# Altium footprint library sensornode.PcbLib: 55 footprints (part 3 of 4)
Each footprint in its own frame and in the unit in brackets; x right, y up, seen from the top. Pads: shape width x height; smd on the part's side, far side on the other; paste and mask are expansions set on the pad; w line width, h text height; cw(c..) or ccw(c..) is an arc to the next point about the centre after c.
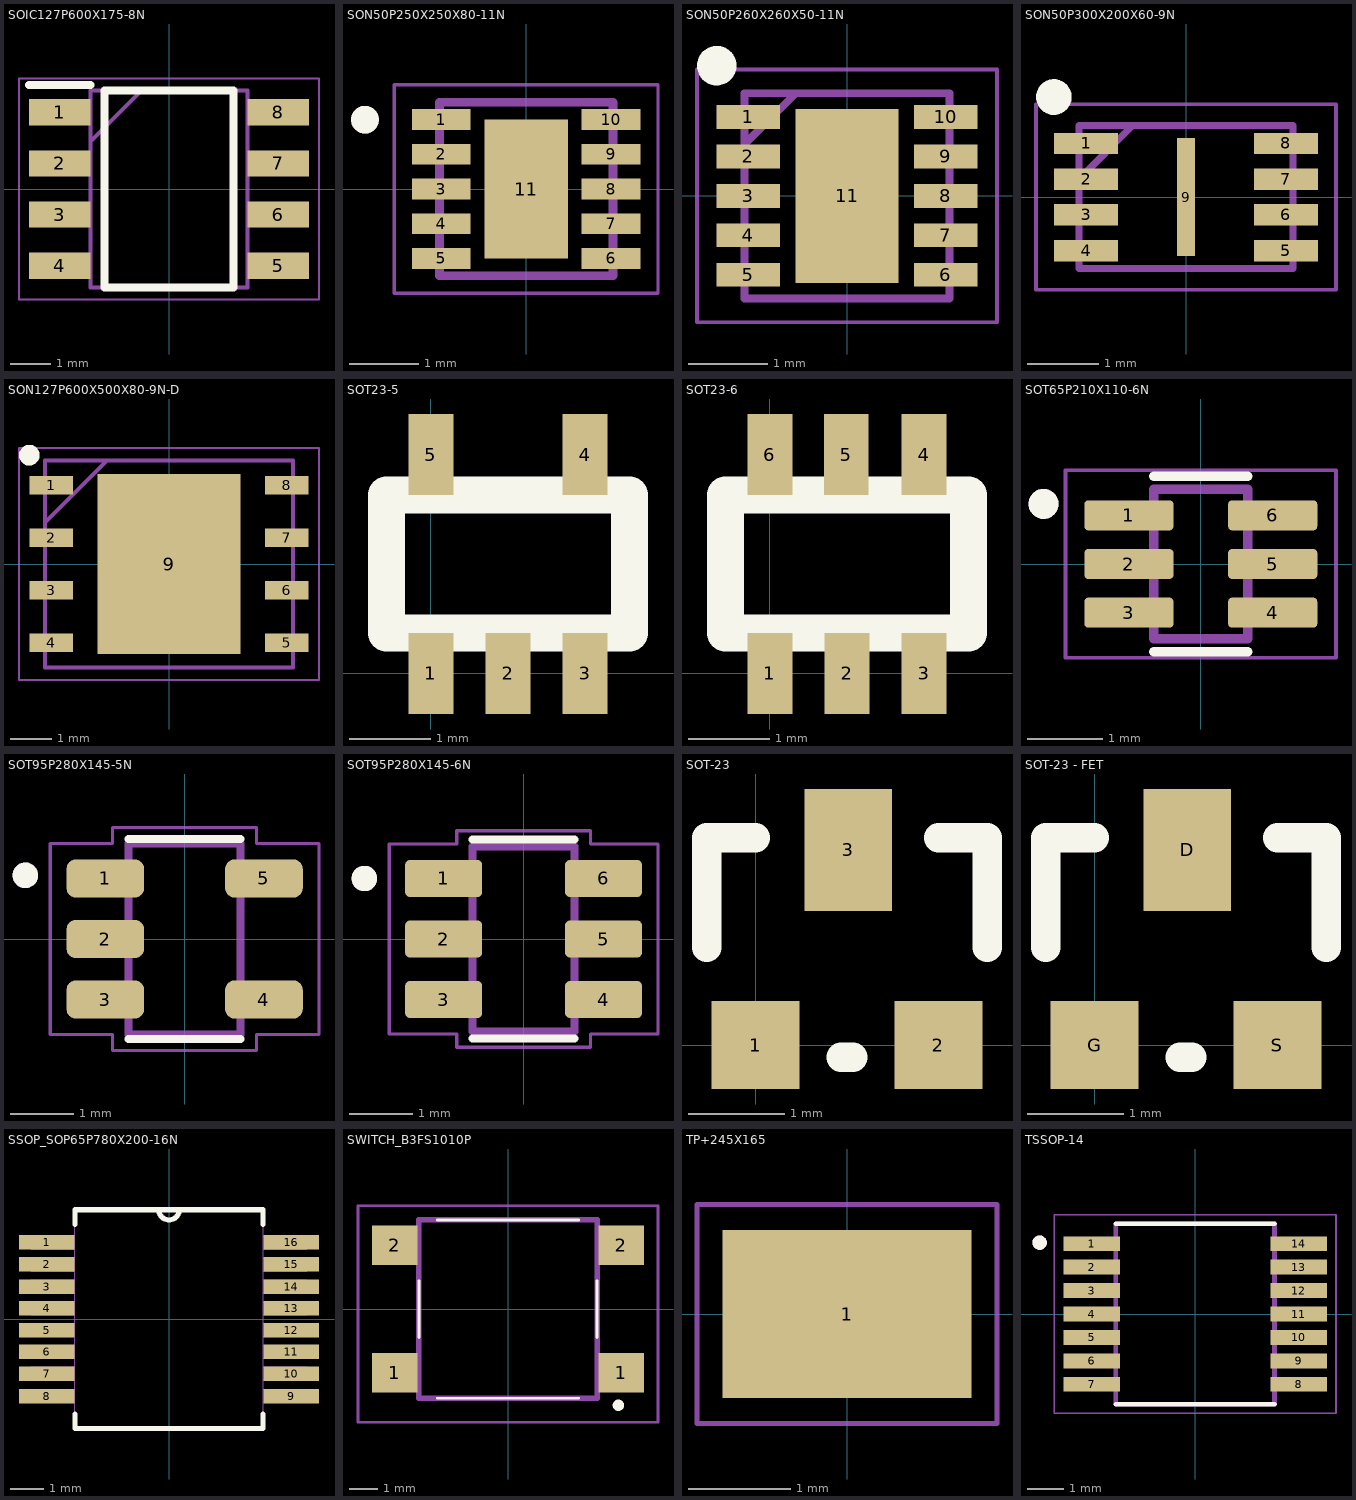
[diagram p2: the footprints below, top view; thin cyan lines are the x and y axes]

## SOIC127P600X175-8N [mm]
pads (8):
  rect 1.525x0.65 smd: 1(-2.712,1.905) 2(-2.712,0.635) 3(-2.712,-0.635) 4(-2.712,-1.905) 5(2.712,-1.905) 6(2.712,-0.635) 7(2.712,0.635) 8(2.712,1.905)
Top Overlay:
  lines w0.2: -3.475,2.58 -1.95,2.58 ; -1.6,-2.45 1.6,-2.45 1.6,2.45 -1.6,2.45 -1.6,-2.45
Mechanical 13:
  lines w0.1: -1.95,1.18 -0.68,2.45 ; -1.95,-2.45 1.95,-2.45 1.95,2.45 -1.95,2.45 -1.95,-2.45
Mechanical 15:
  lines w0.05: -3.725,-2.75 3.725,-2.75 3.725,2.75 -3.725,2.75 -3.725,-2.75
3D body "NE555DR.stp": height 1.75, standoff 0, extent -3,-2.45 3,2.45

## SON50P250X250X80-11N [mm]
height 0.8
pads (11):
  rect 0.85x0.3 smd mask+0.05: 1(-1.225,1) 2(-1.225,0.5) 3(-1.225,0) 4(-1.225,-0.5) 5(-1.225,-1) 6(1.225,-1) 7(1.225,-0.5) 8(1.225,0) 9(1.225,0.5) 10(1.225,1)
  rect 1.2x2 smd paste-2 mask+0.05: 11(0,0)
Top Overlay:
  circle w0.2: c-2.325,1 r0.1
Top Paste:
  region: 0.379,-0.632 -0.379,-0.632 -0.379,0.632 0.379,0.632
Mechanical 13:
  circle w0.2: c-2.325,1 r0.1
  lines w0.127: -1.25,-1.25 1.25,-1.25 1.25,1.25 -1.25,1.25 -1.25,-1.25
Mechanical 15:
  lines w0.05: -1.9,-1.5 -1.9,1.5 1.9,1.5 1.9,-1.5 -1.9,-1.5
3D body "step_temp.STEP": height 0.8, standoff 0, extent -1.25,-1.25 1.25,1.25

## SON50P260X260X50-11N [mm]
pads (11):
  rect 0.8x0.3 smd: 1(-1.25,1) 2(-1.25,0.5) 3(-1.25,0) 4(-1.25,-0.5) 5(-1.25,-1) 6(1.25,-1) 7(1.25,-0.5) 8(1.25,0) 9(1.25,0.5) 10(1.25,1)
  rect 1.3x2.2 smd: 11(0,0)
Top Overlay:
  circle w0.25: c-1.65,1.65 r0.125
Mechanical 15:
  lines w0.1: -1.3,0.65 -0.65,1.3 ; -1.3,-1.3 -1.3,1.3 1.3,1.3 1.3,-1.3 -1.3,-1.3
Mechanical 20:
  lines w0.05: -1.9,-1.6 -1.9,1.6 1.9,1.6 1.9,-1.6 -1.9,-1.6
3D body "step_temp.STEP": height 0.8, standoff 0, extent -1.25,-1.25 1.25,1.25

## SON50P300X200X60-9N [mm]
pads (9):
  rect 0.9x0.3 smd: 1(-1.4,0.75) 2(-1.4,0.25) 3(-1.4,-0.25) 4(-1.4,-0.75) 5(1.4,-0.75) 6(1.4,-0.25) 7(1.4,0.25) 8(1.4,0.75)
  rect 0.25x1.65 smd: 9(0,0)
Top Overlay:
  circle w0.25: c-1.85,1.4 r0.125
Mechanical 13:
  lines w0.1: -1.5,0.25 -0.75,1 ; -1.5,-1 -1.5,1 1.5,1 1.5,-1 -1.5,-1
Mechanical 15:
  lines w0.05: -2.1,-1.3 -2.1,1.3 2.1,1.3 2.1,-1.3 -2.1,-1.3
3D body "W25Q16JVUXIQ_TR.stp": height 0.6, standoff 0, extent -1.55,-1 1.55,1

## SON127P600X500X80-9N-D [mm]
pads (9):
  rect 1.05x0.45 smd: 1(-2.85,1.905) 2(-2.85,0.635) 3(-2.85,-0.635) 4(-2.85,-1.905) 5(2.85,-1.905) 6(2.85,-0.635) 7(2.85,0.635) 8(2.85,1.905)
  rect 3.45x4.35 smd: 9(0,0)
Top Overlay:
  circle w0.25: c-3.375,2.63 r0.125
Mechanical 13:
  lines w0.1: -3,1 -1.5,2.5 ; -3,-2.5 3,-2.5 3,2.5 -3,2.5 -3,-2.5
Mechanical 15:
  lines w0.05: -3.625,-2.8 3.625,-2.8 3.625,2.8 -3.625,2.8 -3.625,-2.8
3D body "W25Q128JVPIQ.stp": height 0.8, standoff 0, extent -3.05,-2.5 3.05,2.5

## SOT23-5 [mm]
pads (5):
  rect 0.55x1 smd: 1(0,0) 2(0.95,0) 3(1.9,0) 4(1.9,2.7) 5(0,2.7)
Top Overlay:
  lines w0.457: -0.55,0.5 -0.55,2.2 2.45,2.2 2.45,0.5 -0.55,0.5
3D body: height 1.45, standoff 0, extent -0.55,0.5 2.45,2.2

## SOT23-6 [mm]
height 1.4
pads (6):
  rect 0.55x1 smd: 1(0,0) 2(0.95,0) 3(1.9,0) 4(1.9,2.7) 5(0.94,2.7) 6(0,2.7)
Top Overlay:
  lines w0.457: -0.55,0.5 2.45,0.5 2.45,2.2 -0.55,2.2 -0.55,0.5
3D body: height 1.45, standoff 0, extent -0.55,0.5 2.45,2.2

## SOT65P210X110-6N [mm]
pads (6):
  rrect25% 1.19x0.4 smd: 1(-0.96,0.65) 2(-0.96,0) 3(-0.96,-0.65) 4(0.96,-0.65) 5(0.96,0) 6(0.96,0.65)
Top Overlay:
  circle w0.2: c-2.1,0.802 r0.1
  lines w0.127: -0.625,-1.17 0.625,-1.17 ; -0.625,1.17 0.625,1.17
Mechanical 13:
  circle w0.2: c-2.1,0.802 r0.1
  lines w0.127: -0.625,-1 0.625,-1 0.625,1 -0.625,1 -0.625,-1
Mechanical 15:
  lines w0.05: -1.805,-1.25 1.805,-1.25 1.805,1.25 -1.805,1.25 -1.805,-1.25
3D body "step_temp.STEP": height 1.1, standoff 0, extent -1.05,-1 1.05,1

## SOT95P280X145-5N [mm]
pads (5):
  rrect50% 1.22x0.6 smd: 1(-1.245,0.95) 2(-1.245,0) 3(-1.245,-0.95) 4(1.245,-0.95) 5(1.245,0.95)
Top Overlay:
  circle w0.2: c-2.5,1 r0.1
  lines w0.127: -0.88,-1.57 0.88,-1.57 ; -0.88,1.57 0.88,1.57
Mechanical 13:
  circle w0.2: c-2.5,1 r0.1
  lines w0.127: -0.88,-1.5 0.88,-1.5 0.88,1.5 -0.88,1.5 -0.88,-1.5
Mechanical 15:
  lines w0.05: -2.11,-1.5 -2.11,1.5 -1.13,1.5 -1.13,1.75 1.13,1.75 1.13,1.5 2.11,1.5 2.11,-1.5 1.13,-1.5 1.13,-1.75 -1.13,-1.75 -1.13,-1.5 -2.11,-1.5
3D body "step_temp.STEP": height 1.45, standoff 0, extent -1.45,-1.35 1.45,1.35

## SOT95P280X145-6N [mm]
pads (6):
  rrect25% 1.21x0.58 smd: 1(-1.255,0.95) 2(-1.255,0) 3(-1.255,-0.95) 4(1.255,-0.95) 5(1.255,0) 6(1.255,0.95)
Top Overlay:
  circle w0.2: c-2.5,0.95 r0.1
  lines w0.127: -0.8,-1.56 0.8,-1.56 ; -0.8,1.56 0.8,1.56
Mechanical 13:
  circle w0.2: c-2.5,0.95 r0.1
  lines w0.127: -0.8,-1.45 0.8,-1.45 0.8,1.45 -0.8,1.45 -0.8,-1.45
Mechanical 15:
  lines w0.05: -2.11,-1.49 -1.05,-1.49 -1.05,-1.7 1.05,-1.7 1.05,-1.49 2.11,-1.49 2.11,1.49 1.05,1.49 1.05,1.7 -1.05,1.7 -1.05,1.49 -2.11,1.49 -2.11,-1.49
3D body "sot23-6.STEP": height 1.45, standoff 0, extent -1.35,-1.45 1.35,1.45

## SOT-23 [mil]
pads (3):
  rect 36x36 smd: 1(0,0) 2(75,0)
  rect 36x50 smd: 3(38,80)
Top Overlay:
  lines w12: -20,40 -20,85 0,85 ; 35,-5 40,-5 ; 75,85 95,85 95,40
3D body: height 68.9, standoff 0, extent -20,-5 95,85

## SOT-23 - FET [mil]
pads (3):
  rect 36x50 smd: D(38,80)
  rect 36x36 smd: G(0,0) S(75,0)
Top Overlay:
  lines w12: -20,40 -20,85 0,85 ; 35,-5 40,-5 ; 75,85 95,85 95,40
3D body: height 68.9, standoff 0, extent -20,-5 95,85

## SSOP_SOP65P780X200-16N [mil]
pads (16):
  rect 65x17 smd: 1(-143,90) 2(-143,64) 3(-143,38) 4(-143,13) 5(-143,-13) 6(-143,-38) 7(-143,-64) 8(-143,-90) 9(143,-90) 10(143,-64) 11(143,-38) 12(143,-13) 13(143,13) 14(143,38) 15(143,64) 16(143,90)
Top Overlay:
  lines w6: -110,-111 -110,-128 110,-128 110,-111 ; -110,111 -110,128 -12,128 ; 110,111 110,128 12,128 ; -12,128 ccw(c0,128) 12,128 ; -12,128 12,128
Mechanical 13:
  lines w0: -12,128 ccw(c0,128) 12,128 ; -12,128 -110,128 -110,-128 110,-128 110,128 12,128 ; -12,128 12,128 ; -161,-97 -110,-97 -110,-82 -161,-82 -161,-97 ; -161,-71 -110,-71 -110,-56 -161,-56 -161,-71 ; -161,-46 -110,-46 -110,-31 -161,-31 -161,-46 ; -161,-20 -110,-20 -110,-5 -161,-5 -161,-20 ; -161,5 -110,5 -110,20 -161,20 -161,5 ; -161,31 -110,31 -110,46 -161,46 -161,31 ; -161,56 -110,56 -110,71 -161,71 -161,56 ; -161,82 -110,82 -110,97 -161,97 -161,82 ; 110,-97 161,-97 161,-82 110,-82 110,-97 ; 110,-71 161,-71 161,-56 110,-56 110,-71 ; 110,-46 161,-46 161,-31 110,-31 110,-46 ; 110,-20 161,-20 161,-5 110,-5 110,-20 ; 110,5 161,5 161,20 110,20 110,5 ; 110,31 161,31 161,46 110,46 110,31 ; 110,56 161,56 161,71 110,71 110,56 ; 110,82 161,82 161,97 110,97 110,82
3D body "MAX3221EIDB.STEP": height 78.74, standoff 0, extent -153.54,-127.95 153.54,127.95

## SWITCH_B3FS1010P [mm]
pads (4):
  rect 1.6x1.4 smd: 1(-4,-2.25) 1(4,-2.25) 2(-4,2.25) 2(4,2.25)
Top Overlay:
  lines w0.1: -3.15,-1 -3.15,1 ; -2.5,-3.15 2.5,-3.15 ; -2.5,3.15 2.5,3.15 ; 3.15,-1 3.15,1
  lines w0.2: 3.8,-3.4 cw(c3.9,-3.4) 4,-3.4 cw(c3.9,-3.4) 3.8,-3.4
Mechanical 13:
  lines w0.2: -3.15,-3.15 -3.15,3.15 3.15,3.15 3.15,-3.15 -3.15,-3.15
Mechanical 15:
  lines w0.1: -5.3,-4 -5.3,3.65 5.3,3.65 5.3,-4 -5.3,-4
3D body "B3FS-1010P.stp": height 4.3, standoff 0, extent -4,-3.2 4,3.1

## TP+245X165 [mm]
pads (1):
  rect 2.45x1.65 smd: 1(0,0)
Mechanical 13:
  lines w0.127: -1,-0.625 -1,0.625 1,0.625 1,-0.625 -1,-0.625
Mechanical 15:
  lines w0.05: -1.475,-1.075 1.475,-1.075 1.475,1.075 -1.475,1.075 -1.475,-1.075
3D body "step_temp.STEP": height 1.44, standoff -0.01, extent -1,-0.625 1,0.625

## TSSOP-14 [mm] "TSSOP-14 / SOP65P640X120-14N"
height 1.2
pads (14):
  rect 1.57x0.41 smd: 1(-2.87,1.95) 2(-2.87,1.3) 3(-2.87,0.65) 4(-2.87,0) 5(-2.87,-0.65) 6(-2.87,-1.3) 7(-2.87,-1.95) 8(2.87,-1.95) 9(2.87,-1.3) 10(2.87,-0.65) 11(2.87,0) 12(2.87,0.65) 13(2.87,1.3) 14(2.87,1.95)
Top Overlay:
  circle w0.2: c-4.313,1.979 r0.1
  lines w0.127: -2.2,-2.5 2.2,-2.5 ; -2.2,2.5 2.2,2.5
Mechanical 13:
  circle w0.2: c-4.313,1.979 r0.1
  lines w0.127: -2.2,-2.5 -2.2,2.5 2.2,2.5 2.2,-2.5 -2.2,-2.5
Mechanical 15:
  lines w0.05: -3.905,-2.75 -3.905,2.75 3.905,2.75 3.905,-2.75 -3.905,-2.75
3D body "step_temp.STEP": height 1.2, standoff 0, extent -3.2,-2.5 3.2,2.5